# EAGLE library part PT2128 (library chuong)
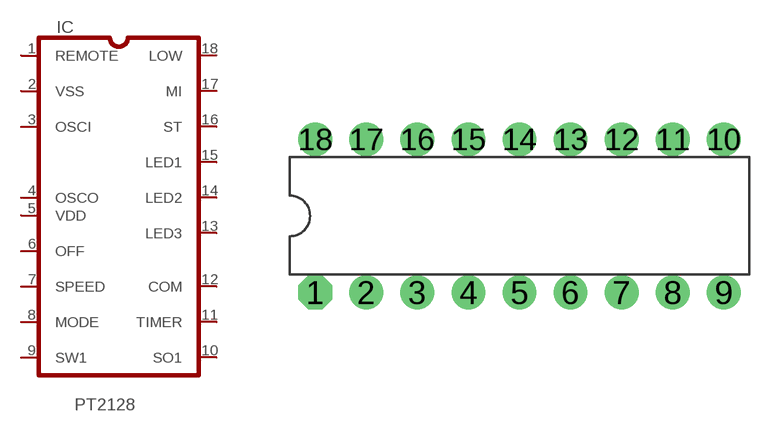
[diagram p88: symbol with the pads of DIL-18; footprint DIL-18]

Designator prefix IC

## PT2128  [DIL-18]
1  REMOTE  out
2  VSS  out
3  OSCI  out
4  OSCO  in
5  VDD  out
6  OFF  out
7  SPEED  out
8  MODE  out
9  SW1  out
10  SO1  out
11  TIMER  in
12  COM  in
13  LED3  in
14  LED2  in
15  LED1  in
16  ST  in
17  MI  in
18  LOW  in

## Footprint DIL-18 (pad centres in mm)
drill 0.61 pad 1.676 octagon: 1 -10.16,-3.81
drill 0.61 pad 1.676 round: 2 -7.62,-3.81; 3 -5.08,-3.81; 4 -2.54,-3.81; 5 0,-3.81; 6 2.54,-3.81; 7 5.08,-3.81; 8 7.62,-3.81; 9 10.16,-3.81; 10 10.16,3.81; 11 7.62,3.81; 12 5.08,3.81; 13 2.54,3.81; 14 0,3.81; 15 -2.54,3.81; 16 -5.08,3.81; 17 -7.62,3.81; 18 -10.16,3.81